# Altium schematic symbol library W65C22N6TPLG-14 to DIP VIA 6522 Adapter.SCHLIB: 2 symbols
Pins are listed as number, name and electrical type; pins without a type are passive.

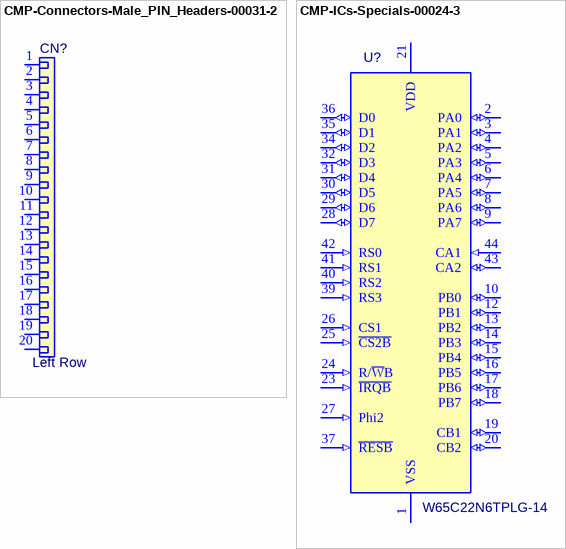
[diagram p0: symbols CMP-Connectors-Male_PIN_Headers-00031-2 to CMP-ICs-Specials-00024-3]

## CMP-Connectors-Male_PIN_Headers-00031-2
designator CN?, comment Left Row
Conn Header Vert 20POS 2MM; Manufacturer: Preci-Dip; Manufacturer Part Number: 830-10-020-10-001101; Connector Type: Male Pin; Number of Positions: 20; Pitch: 0.079inch; Contact Mating Length: 0.141inch; Package Quantity: 250; Mount: Through Hole; Color: Black; Packaging: Bulk; Contact Plating: Gold; Number of Rows: 1; Termination: Solder; Component Type: Male PIN Headers
footprint Pin Header 01x20 2.54mm precision Horizontal Male (Precision)
pins: 1, 2, 3, 4, 5, 6, 7, 8, 9, 10, 11, 12, 13, 14, 15, 16, 17, 18, 19, 20

## CMP-ICs-Specials-00024-3
designator U?, comment W65C22N6TPLG-14
I/O Controller Interface IC Versatile Interface Adapter; Manufacturer: Western Design Center; Operating Supply Voltage: 5V; Data Bus Width: 8b; Operating Supply Current: 500uA; Interface: Serial; Packaging: Rail/Tube; Min Operating Temperature: -40°C; Case/Package: PLCC; Weight: 0.084185oz; Max Operating Temperature: 85°C; Manufacturer Part Number: W65C22N6TPLG-14; Component Type: Specials
footprint W65C22N6TPLG-14 with PLCC Socket
pins: 1 VSS (power), 2 PA0 (io), 3 PA1 (io), 4 PA2 (io), 5 PA3 (io), 6 PA4 (io), 7 PA5 (io), 8 PA6 (io), 9 PA7 (io), 10 PB0 (io), 11 NC hidden, 12 PB1 (io), 13 PB2 (io), 14 PB3 (io), 15 PB4 (io), 16 PB5 (io), 17 PB6 (io), 18 PB7 (io), 19 CB1 (io), 20 CB2 (io), 21 VDD (power), 22 NC hidden, 23 ~{IRQB} (in), 24 R/~{W}B (in), 25 ~{CS2B} (in), 26 CS1 (in), 27 Phi2 (in), 28 D7 (io), 29 D6 (io), 30 D5 (io), 31 D4 (io), 32 D3 (io), 33 NC hidden, 34 D2 (io), 35 D1 (io), 36 D0 (io), 37 ~{RESB} (in), 38 NC hidden, 39 RS3 (in), 40 RS2 (in), 41 RS1 (in), 42 RS0 (in), 43 CA2 (io), 44 CA1 (in)